# Altium integrated library Capacitor - Aluminium TH.IntLib: 4591 symbols (part 16 of 68)
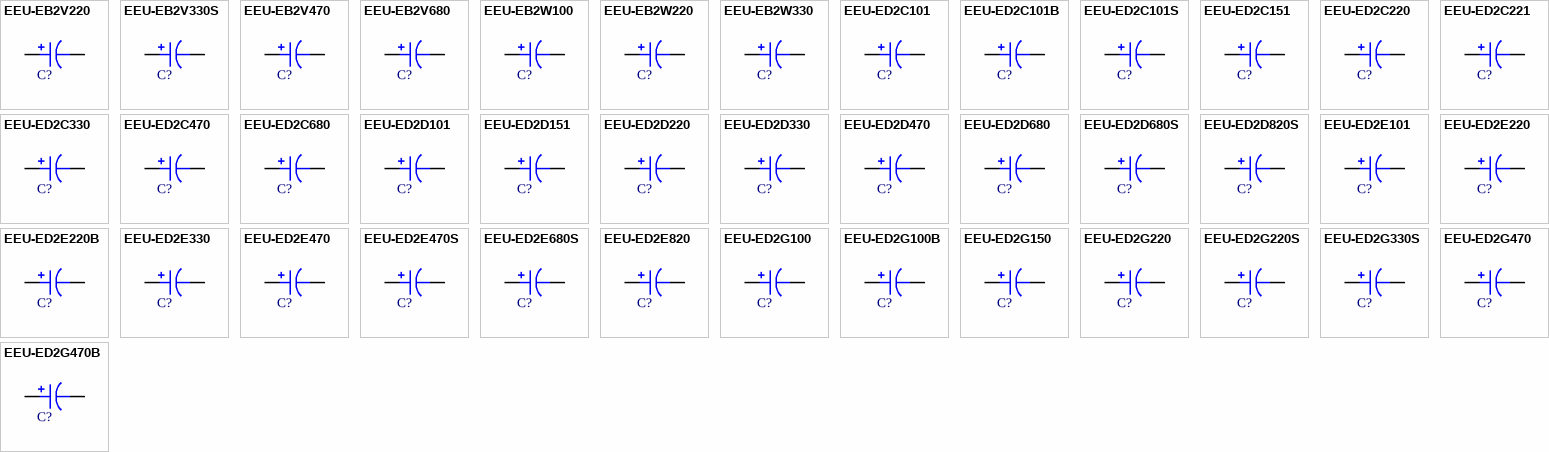
[diagram p129: symbols EEU-EB2V220 to EEU-ED2G470B]

## EEU-ED2C470
designator C?, comment 47uF  (value not drawn)
CAP ALUM 47UF 20% 160V RADIAL; Part Number: EEU-ED2C470; Manufacturer: Panasonic Electronic Components; TemperatureRange: -25C ~ 105C; Type: Polar; Ripple Current: 300mA @ 120Hz; Value: 47uF; PartId: 25561; Supplier 1: Digi-Key; Supplier Part Number 1: P13515-ND; ComponentLink1Description: Datasheet; ComponentLink1URL: http://industrial.panasonic.com/cdbs/www-data/pdf/RDF0000/ABA0000CE86.pdf; ComponentLink2Description: Digi-Key Listing; ComponentLink2URL: https://www.digikey.com/product-detail/en/panasonic-electronic-components/EEU-ED2C470/P13515-ND/1086740; Tolerance: 20%; Voltage: 160V; Price: 0.65; Device Package: Radial, Can, 10mm
footprint CAP AL TH D10 L5 H22
pins: 1, 2

## EEU-ED2C680
designator C?, comment 68uF  (value not drawn)
CAP ALUM 68UF 20% 160V RADIAL; Part Number: EEU-ED2C680; Manufacturer: Panasonic Electronic Components; TemperatureRange: -25C ~ 105C; Type: Polar; Ripple Current: 380mA @ 120Hz; Value: 68uF; PartId: 22917; Supplier 1: Digi-Key; Supplier Part Number 1: P13516-ND; ComponentLink1Description: Datasheet; ComponentLink1URL: http://industrial.panasonic.com/cdbs/www-data/pdf/RDF0000/ABA0000CE86.pdf; ComponentLink2Description: Digi-Key Listing; ComponentLink2URL: https://www.digikey.com/product-detail/en/panasonic-electronic-components/EEU-ED2C680/P13516-ND/1086741; Tolerance: 20%; Voltage: 160V; Price: 0; Device Package: Radial, Can, 12.5mm
footprint CAP AL TH D12.5 L5 H20
pins: 1, 2

## EEU-ED2D101
designator C?, comment 100uF  (value not drawn)
CAP ALUM 100UF 20% 200V RADIAL; Part Number: EEU-ED2D101; Manufacturer: Panasonic Electronic Components; TemperatureRange: -25C ~ 105C; Type: Polar; Ripple Current: 585mA @ 120Hz; Value: 100uF; PartId: 26624; Supplier 1: Digi-Key; Supplier Part Number 1: P13518-ND; ComponentLink1Description: Datasheet; ComponentLink1URL: http://industrial.panasonic.com/cdbs/www-data/pdf/RDF0000/ABA0000CE86.pdf; ComponentLink2Description: Digi-Key Listing; ComponentLink2URL: https://www.digikey.com/product-detail/en/panasonic-electronic-components/EEU-ED2D101/P13518-ND/1086743; Tolerance: 20%; Voltage: 200V; Price: 1.43; Device Package: Radial, Can, 16mm
footprint CAP AL TH D16 L7.5 H26.5
pins: 1, 2

## EEU-ED2D151
designator C?, comment 150uF  (value not drawn)
CAP ALUM 150UF 20% 200V RADIAL; Part Number: EEU-ED2D151; Manufacturer: Panasonic Electronic Components; TemperatureRange: -25C ~ 105C; Type: Polar; Ripple Current: 630mA @ 120Hz; Value: 150uF; PartId: 26623; Supplier 1: Digi-Key; Supplier Part Number 1: P13520-ND; ComponentLink1Description: Datasheet; ComponentLink1URL: http://industrial.panasonic.com/cdbs/www-data/pdf/RDF0000/ABA0000CE86.pdf; ComponentLink2Description: Digi-Key Listing; ComponentLink2URL: https://www.digikey.com/product-detail/en/panasonic-electronic-components/EEU-ED2D151/P13520-ND/1086745; Tolerance: 20%; Voltage: 200V; Price: 1.43; Device Package: Radial, Can, 16mm
footprint CAP AL TH D16 L7.5 H26.5
pins: 1, 2

## EEU-ED2D220
designator C?, comment 22uF  (value not drawn)
CAP ALUM 22UF 20% 200V RADIAL; Part Number: EEU-ED2D220; Manufacturer: Panasonic Electronic Components; TemperatureRange: -25C ~ 105C; Type: Polar; Ripple Current: 240mA @ 120Hz; Value: 22uF; PartId: 25565; Supplier 1: Digi-Key; Supplier Part Number 1: P13521-ND; ComponentLink1Description: Datasheet; ComponentLink1URL: http://industrial.panasonic.com/cdbs/www-data/pdf/RDF0000/ABA0000CE86.pdf; ComponentLink2Description: Digi-Key Listing; ComponentLink2URL: https://www.digikey.com/product-detail/en/panasonic-electronic-components/EEU-ED2D220/P13521-ND/1086746; Tolerance: 20%; Voltage: 200V; Price: 0.65; Device Package: Radial, Can, 10mm
footprint CAP AL TH D10 L5 H22
pins: 1, 2

## EEU-ED2D330
designator C?, comment 33uF  (value not drawn)
CAP ALUM 33UF 20% 200V RADIAL; Part Number: EEU-ED2D330; Manufacturer: Panasonic Electronic Components; TemperatureRange: -25C ~ 105C; Type: Polar; Ripple Current: 260mA @ 120Hz; Value: 33uF; PartId: 25562; Supplier 1: Digi-Key; Supplier Part Number 1: P13523-ND; ComponentLink1Description: Datasheet; ComponentLink1URL: http://industrial.panasonic.com/cdbs/www-data/pdf/RDF0000/ABA0000CE86.pdf; ComponentLink2Description: Digi-Key Listing; ComponentLink2URL: https://www.digikey.com/product-detail/en/panasonic-electronic-components/EEU-ED2D330/P13523-ND/1086748; Tolerance: 20%; Voltage: 200V; Price: 0.65; Device Package: Radial, Can, 10mm
footprint CAP AL TH D10 L5 H22
pins: 1, 2

## EEU-ED2D470
designator C?, comment 47uF  (value not drawn)
CAP ALUM 47UF 20% 200V RADIAL; Part Number: EEU-ED2D470; Manufacturer: Panasonic Electronic Components; TemperatureRange: -25C ~ 105C; Type: Polar; Ripple Current: 316mA @ 120Hz; Value: 47uF; PartId: 22916; Supplier 1: Digi-Key; Supplier Part Number 1: P13525-ND; ComponentLink1Description: Datasheet; ComponentLink1URL: http://industrial.panasonic.com/cdbs/www-data/pdf/RDF0000/ABA0000CE86.pdf; ComponentLink2Description: Digi-Key Listing; ComponentLink2URL: https://www.digikey.com/product-detail/en/panasonic-electronic-components/EEU-ED2D470/P13525-ND/1086750; Tolerance: 20%; Voltage: 200V; Price: 0; Device Package: Radial, Can, 12.5mm
footprint CAP AL TH D12.5 L5 H20
pins: 1, 2

## EEU-ED2D680
designator C?, comment 68uF  (value not drawn)
CAP ALUM 68UF 20% 200V RADIAL; Part Number: EEU-ED2D680; Manufacturer: Panasonic Electronic Components; TemperatureRange: -25C ~ 105C; Type: Polar; Ripple Current: 380mA @ 120Hz; Value: 68uF; PartId: 23603; Supplier 1: Digi-Key; Supplier Part Number 1: P13526-ND; ComponentLink1Description: Datasheet; ComponentLink1URL: http://industrial.panasonic.com/cdbs/www-data/pdf/RDF0000/ABA0000CE86.pdf; ComponentLink2Description: Digi-Key Listing; ComponentLink2URL: https://www.digikey.com/product-detail/en/panasonic-electronic-components/EEU-ED2D680/P13526-ND/1086751; Tolerance: 20%; Voltage: 200V; Price: 1.05; Device Package: Radial, Can, 12.5mm
footprint CAP AL TH D12.5 L5 H25
pins: 1, 2

## EEU-ED2D680S
designator C?, comment 68uF  (value not drawn)
CAP ALUM 68UF 20% 200V RADIAL; Part Number: EEU-ED2D680S; Manufacturer: Panasonic Electronic Components; TemperatureRange: -25C ~ 105C; Type: Polar; Ripple Current: 400mA @ 120Hz; Value: 68uF; PartId: 26324; Supplier 1: Digi-Key; Supplier Part Number 1: P13527-ND; ComponentLink1Description: Datasheet; ComponentLink1URL: http://industrial.panasonic.com/www-cgi/jvcr13pz.cgi?E+PZ+3+ABA0123+EEUED2D680S+7+WW; ComponentLink2Description: Digi-Key Listing; ComponentLink2URL: https://www.digikey.com/product-detail/en/panasonic-electronic-components/EEU-ED2D680S/P13527-ND/1086753; Tolerance: 20%; Voltage: 200V; Price: 1.32; Device Package: Radial, Can, 16mm
footprint CAP AL TH D16 L7.5 H20
pins: 1, 2

## EEU-ED2D820S
designator C?, comment 82uF  (value not drawn)
CAP ALUM 82UF 20% 200V RADIAL; Part Number: EEU-ED2D820S; Manufacturer: Panasonic Electronic Components; TemperatureRange: -25C ~ 105C; Type: Polar; Ripple Current: 440mA @ 120Hz; Value: 82uF; PartId: 26325; Supplier 1: Digi-Key; Supplier Part Number 1: P13528-ND; ComponentLink1Description: Datasheet; ComponentLink1URL: http://industrial.panasonic.com/www-cgi/jvcr13pz.cgi?E+PZ+3+ABA0123+EEUED2D820S+7+WW; ComponentLink2Description: Digi-Key Listing; ComponentLink2URL: https://www.digikey.com/product-detail/en/panasonic-electronic-components/EEU-ED2D820S/P13528-ND/1086754; Tolerance: 20%; Voltage: 200V; Price: 1.32; Device Package: Radial, Can, 16mm
footprint CAP AL TH D16 L7.5 H20
pins: 1, 2

## EEU-ED2E101
designator C?, comment 100uF  (value not drawn)
CAP ALUM 100UF 20% 250V RADIAL; Part Number: EEU-ED2E101; Manufacturer: Panasonic Electronic Components; TemperatureRange: -25C ~ 105C; Type: Polar; Ripple Current: 675mA @ 120Hz; Value: 100uF; PartId: 27161; Supplier 1: Digi-Key; Supplier Part Number 1: P13529-ND; ComponentLink1Description: Datasheet; ComponentLink1URL: http://industrial.panasonic.com/cdbs/www-data/pdf/RDF0000/ABA0000CE86.pdf; ComponentLink2Description: Digi-Key Listing; ComponentLink2URL: https://www.digikey.com/product-detail/en/panasonic-electronic-components/EEU-ED2E101/P13529-ND/1086755; Tolerance: 20%; Voltage: 250V; Price: 1.87; Device Package: Radial, Can, 16mm
footprint CAP AL TH D16 L7.5 H33.5
pins: 1, 2

## EEU-ED2E220
designator C?, comment 22uF  (value not drawn)
CAP ALUM 22UF 20% 250V RADIAL; Part Number: EEU-ED2E220; Manufacturer: Panasonic Electronic Components; TemperatureRange: -25C ~ 105C; Type: Polar; Ripple Current: 224mA @ 120Hz; Value: 22uF; PartId: 25564; Supplier 1: Digi-Key; Supplier Part Number 1: P13532-ND; ComponentLink1Description: Datasheet; ComponentLink1URL: http://industrial.panasonic.com/cdbs/www-data/pdf/RDF0000/ABA0000CE86.pdf; ComponentLink2Description: Digi-Key Listing; ComponentLink2URL: https://www.digikey.com/product-detail/en/panasonic-electronic-components/EEU-ED2E220/P13532-ND/1086758; Tolerance: 20%; Voltage: 250V; Price: 0.65; Device Package: Radial, Can, 10mm
footprint CAP AL TH D10 L5 H22
pins: 1, 2

## EEU-ED2E220B
designator C?, comment 22uF  (value not drawn)
CAP ALUM 22UF 20% 250V RADIAL; Part Number: EEU-ED2E220B; Manufacturer: Panasonic Electronic Components; TemperatureRange: -25C ~ 105C; Type: Polar; Ripple Current: 224mA @ 120Hz; Value: 22uF; PartId: 25788; Supplier 1: Digi-Key; Supplier Part Number 1: P19624TB-ND; ComponentLink1Description: Datasheet; ComponentLink1URL: http://industrial.panasonic.com/cdbs/www-data/pdf/RDF0000/ABA0000CE86.pdf; ComponentLink2Description: Digi-Key Listing; ComponentLink2URL: https://www.digikey.com/product-detail/en/panasonic-electronic-components/EEU-ED2E220B/P19624TB-ND/2689466; Tolerance: 20%; Voltage: 250V; Price: 0.2612; Device Package: Radial, Can, 10mm
footprint CAP AL TH D10 L5 H22
pins: 1, 2

## EEU-ED2E330
designator C?, comment 33uF  (value not drawn)
CAP ALUM 33UF 20% 250V RADIAL; Part Number: EEU-ED2E330; Manufacturer: Panasonic Electronic Components; TemperatureRange: -25C ~ 105C; Type: Polar; Ripple Current: 284mA @ 120Hz; Value: 33uF; PartId: 22918; Supplier 1: Digi-Key; Supplier Part Number 1: P13534-ND; ComponentLink1Description: Datasheet; ComponentLink1URL: http://industrial.panasonic.com/cdbs/www-data/pdf/RDF0000/ABA0000CE86.pdf; ComponentLink2Description: Digi-Key Listing; ComponentLink2URL: https://www.digikey.com/product-detail/en/panasonic-electronic-components/EEU-ED2E330/P13534-ND/1086760; Tolerance: 20%; Voltage: 250V; Price: 0; Device Package: Radial, Can, 12.5mm
footprint CAP AL TH D12.5 L5 H20
pins: 1, 2

## EEU-ED2E470
designator C?, comment 47uF  (value not drawn)
CAP ALUM 47UF 20% 250V RADIAL; Part Number: EEU-ED2E470; Manufacturer: Panasonic Electronic Components; TemperatureRange: -25C ~ 105C; Type: Polar; Ripple Current: 368mA @ 120Hz; Value: 47uF; PartId: 23601; Supplier 1: Digi-Key; Supplier Part Number 1: P13535-ND; ComponentLink1Description: Datasheet; ComponentLink1URL: http://industrial.panasonic.com/cdbs/www-data/pdf/RDF0000/ABA0000CE86.pdf; ComponentLink2Description: Digi-Key Listing; ComponentLink2URL: https://www.digikey.com/product-detail/en/panasonic-electronic-components/EEU-ED2E470/P13535-ND/1086761; Tolerance: 20%; Voltage: 250V; Price: 1.05; Device Package: Radial, Can, 12.5mm
footprint CAP AL TH D12.5 L5 H25
pins: 1, 2

## EEU-ED2E470S
designator C?, comment 47uF  (value not drawn)
CAP ALUM 47UF 20% 250V RADIAL; Part Number: EEU-ED2E470S; Manufacturer: Panasonic Electronic Components; TemperatureRange: -25C ~ 105C; Type: Polar; Ripple Current: 396mA @ 120Hz; Value: 47uF; PartId: 26323; Supplier 1: Digi-Key; Supplier Part Number 1: P13536-ND; ComponentLink1Description: Datasheet; ComponentLink1URL: http://industrial.panasonic.com/www-cgi/jvcr13pz.cgi?E+PZ+3+ABA0123+EEUED2E470S+7+WW; ComponentLink2Description: Digi-Key Listing; ComponentLink2URL: https://www.digikey.com/product-detail/en/panasonic-electronic-components/EEU-ED2E470S/P13536-ND/1086762; Tolerance: 20%; Voltage: 250V; Price: 1.32; Device Package: Radial, Can, 16mm
footprint CAP AL TH D16 L7.5 H20
pins: 1, 2

## EEU-ED2E680S
designator C?, comment 68uF  (value not drawn)
CAP ALUM 68UF 20% 250V RADIAL; Part Number: EEU-ED2E680S; Manufacturer: Panasonic Electronic Components; TemperatureRange: -25C ~ 105C; Type: Polar; Ripple Current: 400mA @ 120Hz; Value: 68uF; PartId: 26321; Supplier 1: Digi-Key; Supplier Part Number 1: P13537-ND; ComponentLink1Description: Datasheet; ComponentLink1URL: http://industrial.panasonic.com/www-cgi/jvcr13pz.cgi?E+PZ+3+ABA0123+EEUED2E680S+7+WW; ComponentLink2Description: Digi-Key Listing; ComponentLink2URL: https://www.digikey.com/product-detail/en/panasonic-electronic-components/EEU-ED2E680S/P13537-ND/1086763; Tolerance: 20%; Voltage: 250V; Price: 1.32; Device Package: Radial, Can, 16mm
footprint CAP AL TH D16 L7.5 H20
pins: 1, 2

## EEU-ED2E820
designator C?, comment 82uF  (value not drawn)
CAP ALUM 82UF 20% 250V RADIAL; Part Number: EEU-ED2E820; Manufacturer: Panasonic Electronic Components; TemperatureRange: -25C ~ 105C; Type: Polar; Ripple Current: 480mA @ 120Hz; Value: 82uF; PartId: 26627; Supplier 1: Digi-Key; Supplier Part Number 1: P13538-ND; ComponentLink1Description: Datasheet; ComponentLink1URL: http://industrial.panasonic.com/cdbs/www-data/pdf/RDF0000/ABA0000CE86.pdf; ComponentLink2Description: Digi-Key Listing; ComponentLink2URL: https://www.digikey.com/product-detail/en/panasonic-electronic-components/EEU-ED2E820/P13538-ND/1086764; Tolerance: 20%; Voltage: 250V; Price: 1.43; Device Package: Radial, Can, 16mm
footprint CAP AL TH D16 L7.5 H26.5
pins: 1, 2

## EEU-ED2G100
designator C?, comment 10uF  (value not drawn)
CAP ALUM 10UF 20% 400V RADIAL; Part Number: EEU-ED2G100; Manufacturer: Panasonic Electronic Components; TemperatureRange: -25C ~ 105C; Type: Polar; Ripple Current: 120mA @ 120Hz; Value: 10uF; PartId: 25622; Supplier 1: Digi-Key; Supplier Part Number 1: P13540-ND; ComponentLink1Description: Datasheet; ComponentLink1URL: http://industrial.panasonic.com/cdbs/www-data/pdf/RDF0000/ABA0000CE86.pdf; ComponentLink2Description: Digi-Key Listing; ComponentLink2URL: https://www.digikey.com/product-detail/en/panasonic-electronic-components/EEU-ED2G100/P13540-ND/1086766; Tolerance: 20%; Voltage: 400V; Price: 0.71; Device Package: Radial, Can, 10mm
footprint CAP AL TH D10 L5 H22
pins: 1, 2

## EEU-ED2G100B
designator C?, comment 10uF  (value not drawn)
CAP ALUM 10UF 20% 400V RADIAL; Part Number: EEU-ED2G100B; Manufacturer: Panasonic Electronic Components; TemperatureRange: -25C ~ 105C; Type: Polar; Ripple Current: 120mA @ 120Hz; Value: 10uF; PartId: 25805; Supplier 1: Digi-Key; Supplier Part Number 1: P19625TB-ND; ComponentLink1Description: Datasheet; ComponentLink1URL: http://industrial.panasonic.com/cdbs/www-data/pdf/RDF0000/ABA0000CE86.pdf; ComponentLink2Description: Digi-Key Listing; ComponentLink2URL: https://www.digikey.com/product-detail/en/panasonic-electronic-components/EEU-ED2G100B/P19625TB-ND/2689474; Tolerance: 20%; Voltage: 400V; Price: 0.3009; Device Package: Radial, Can, 10mm
footprint CAP AL TH D10 L5 H22
pins: 1, 2

## EEU-ED2G150
designator C?, comment 15uF  (value not drawn)
CAP ALUM 15UF 20% 400V RADIAL; Part Number: EEU-ED2G150; Manufacturer: Panasonic Electronic Components; TemperatureRange: -25C ~ 105C; Type: Polar; Ripple Current: 164mA @ 120Hz; Value: 15uF; PartId: 22932; Supplier 1: Digi-Key; Supplier Part Number 1: P13541-ND; ComponentLink1Description: Datasheet; ComponentLink1URL: http://industrial.panasonic.com/cdbs/www-data/pdf/RDF0000/ABA0000CE86.pdf; ComponentLink2Description: Digi-Key Listing; ComponentLink2URL: https://www.digikey.com/product-detail/en/panasonic-electronic-components/EEU-ED2G150/P13541-ND/1086767; Tolerance: 20%; Voltage: 400V; Price: 0; Device Package: Radial, Can, 12.5mm
footprint CAP AL TH D12.5 L5 H20
pins: 1, 2

## EEU-ED2G220
designator C?, comment 22uF  (value not drawn)
CAP ALUM 22UF 20% 400V RADIAL; Part Number: EEU-ED2G220; Manufacturer: Panasonic Electronic Components; TemperatureRange: -25C ~ 105C; Type: Polar; Ripple Current: 200mA @ 120Hz; Value: 22uF; PartId: 23613; Supplier 1: Digi-Key; Supplier Part Number 1: P13542-ND; ComponentLink1Description: Datasheet; ComponentLink1URL: http://industrial.panasonic.com/cdbs/www-data/pdf/RDF0000/ABA0000CE86.pdf; ComponentLink2Description: Digi-Key Listing; ComponentLink2URL: https://www.digikey.com/product-detail/en/panasonic-electronic-components/EEU-ED2G220/P13542-ND/1086768; Tolerance: 20%; Voltage: 400V; Price: 1.15; Device Package: Radial, Can, 12.5mm
footprint CAP AL TH D12.5 L5 H25
pins: 1, 2

## EEU-ED2G220S
designator C?, comment 22uF  (value not drawn)
CAP ALUM 22UF 20% 400V RADIAL; Part Number: EEU-ED2G220S; Manufacturer: Panasonic Electronic Components; TemperatureRange: -25C ~ 105C; Type: Polar; Ripple Current: 240mA @ 120Hz; Value: 22uF; PartId: 26337; Supplier 1: Digi-Key; Supplier Part Number 1: P13543-ND; ComponentLink1Description: Datasheet; ComponentLink1URL: http://industrial.panasonic.com/www-cgi/jvcr13pz.cgi?E+PZ+3+ABA0123+EEUED2G220S+7+WW; ComponentLink2Description: Digi-Key Listing; ComponentLink2URL: https://www.digikey.com/product-detail/en/panasonic-electronic-components/EEU-ED2G220S/P13543-ND/1086769; Tolerance: 20%; Voltage: 400V; Price: 1.48; Device Package: Radial, Can, 16mm
footprint CAP AL TH D16 L7.5 H20
pins: 1, 2

## EEU-ED2G330S
designator C?, comment 33uF  (value not drawn)
CAP ALUM 33UF 20% 400V RADIAL; Part Number: EEU-ED2G330S; Manufacturer: Panasonic Electronic Components; TemperatureRange: -25C ~ 105C; Type: Polar; Ripple Current: 292mA @ 120Hz; Value: 33uF; PartId: 26338; Supplier 1: Digi-Key; Supplier Part Number 1: P13544-ND; ComponentLink1Description: Datasheet; ComponentLink1URL: http://industrial.panasonic.com/www-cgi/jvcr13pz.cgi?E+PZ+3+ABA0123+EEUED2G330S+7+WW; ComponentLink2Description: Digi-Key Listing; ComponentLink2URL: https://www.digikey.com/product-detail/en/panasonic-electronic-components/EEU-ED2G330S/P13544-ND/1086770; Tolerance: 20%; Voltage: 400V; Price: 1.48; Device Package: Radial, Can, 16mm
footprint CAP AL TH D16 L7.5 H20
pins: 1, 2

## EEU-ED2G470
designator C?, comment 47uF  (value not drawn)
CAP ALUM 47UF 20% 400V RADIAL; Part Number: EEU-ED2G470; Manufacturer: Panasonic Electronic Components; TemperatureRange: -25C ~ 105C; Type: Polar; Ripple Current: 336mA @ 120Hz; Value: 47uF; PartId: 26666; Supplier 1: Digi-Key; Supplier Part Number 1: P13545-ND; ComponentLink1Description: Datasheet; ComponentLink1URL: http://industrial.panasonic.com/cdbs/www-data/pdf/RDF0000/ABA0000CE86.pdf; ComponentLink2Description: Digi-Key Listing; ComponentLink2URL: https://www.digikey.com/product-detail/en/panasonic-electronic-components/EEU-ED2G470/P13545-ND/816462; Tolerance: 20%; Voltage: 400V; Price: 1.65; Device Package: Radial, Can, 16mm
footprint CAP AL TH D16 L7.5 H26.5
pins: 1, 2

## EEU-ED2G470B
designator C?, comment 47uF  (value not drawn)
CAP ALUM 47UF 20% 400V RADIAL; Part Number: EEU-ED2G470B; Manufacturer: Panasonic Electronic Components; TemperatureRange: -25C ~ 105C; Type: Polar; Ripple Current: 336mA @ 120Hz; Value: 47uF; PartId: 26809; Supplier 1: Digi-Key; Supplier Part Number 1: P19626TB-ND; ComponentLink1Description: Datasheet; ComponentLink1URL: http://industrial.panasonic.com/cdbs/www-data/pdf/RDF0000/ABA0000CE86.pdf; ComponentLink2Description: Digi-Key Listing; ComponentLink2URL: https://www.digikey.com/product-detail/en/panasonic-electronic-components/EEU-ED2G470B/P19626TB-ND/2689479; Tolerance: 20%; Voltage: 400V; Price: 0.8668; Device Package: Radial, Can, 16mm
footprint CAP AL TH D16 L7.5 H27
pins: 1, 2

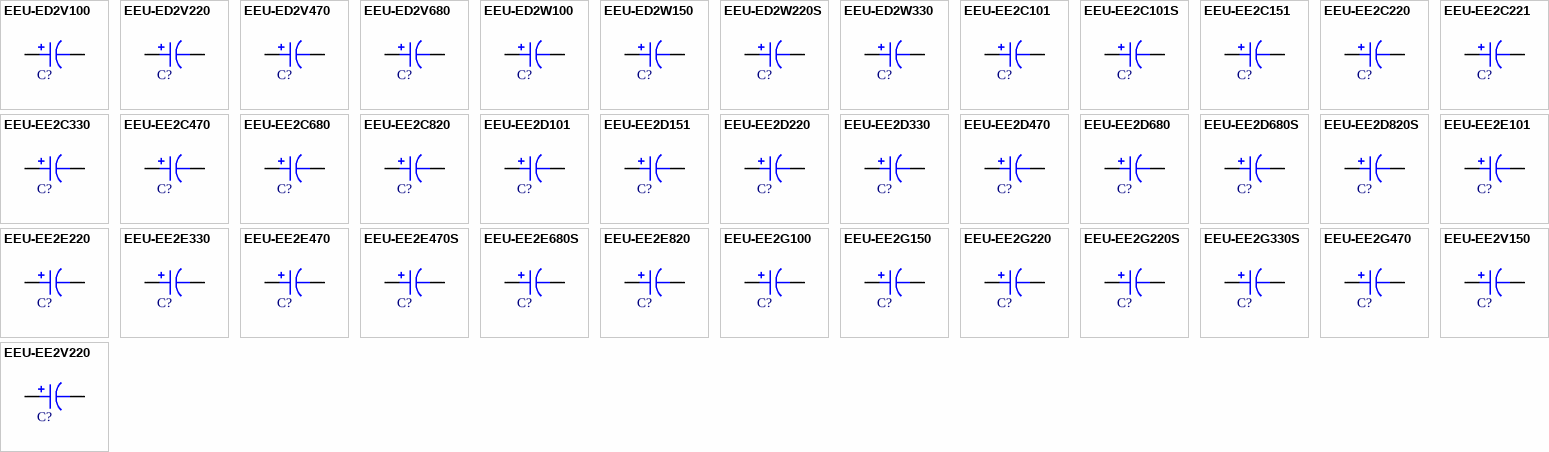
[diagram p26: symbols EEU-ED2V100 to EEU-EE2V220]

## EEU-ED2V100
designator C?, comment 10uF  (value not drawn)
CAP ALUM 10UF 20% 350V RADIAL; Part Number: EEU-ED2V100; Manufacturer: Panasonic Electronic Components; TemperatureRange: -25C ~ 105C; Type: Polar; Ripple Current: 140mA @ 120Hz; Value: 10uF; PartId: 25661; Supplier 1: Digi-Key; Supplier Part Number 1: P13549-ND; ComponentLink1Description: Datasheet; ComponentLink1URL: http://industrial.panasonic.com/cdbs/www-data/pdf/RDF0000/ABA0000CE86.pdf; ComponentLink2Description: Digi-Key Listing; ComponentLink2URL: https://www.digikey.com/product-detail/en/panasonic-electronic-components/EEU-ED2V100/P13549-ND/1086774; Tolerance: 20%; Voltage: 350V; Price: 0.75; Device Package: Radial, Can, 10mm
footprint CAP AL TH D10 L5 H22
pins: 1, 2

## EEU-ED2V220
designator C?, comment 22uF  (value not drawn)
CAP ALUM 22UF 20% 350V RADIAL; Part Number: EEU-ED2V220; Manufacturer: Panasonic Electronic Components; TemperatureRange: -25C ~ 105C; Type: Polar; Ripple Current: 192mA @ 120Hz; Value: 22uF; PartId: 22933; Supplier 1: Digi-Key; Supplier Part Number 1: P13551-ND; ComponentLink1Description: Datasheet; ComponentLink1URL: http://industrial.panasonic.com/cdbs/www-data/pdf/RDF0000/ABA0000CE86.pdf; ComponentLink2Description: Digi-Key Listing; ComponentLink2URL: https://www.digikey.com/product-detail/en/panasonic-electronic-components/EEU-ED2V220/P13551-ND/1086776; Tolerance: 20%; Voltage: 350V; Price: 0; Device Package: Radial, Can, 12.5mm
footprint CAP AL TH D12.5 L5 H20
pins: 1, 2

## EEU-ED2V470
designator C?, comment 47uF  (value not drawn)
CAP ALUM 47UF 20% 350V RADIAL; Part Number: EEU-ED2V470; Manufacturer: Panasonic Electronic Components; TemperatureRange: -25C ~ 105C; Type: Polar; Ripple Current: 320mA @ 120Hz; Value: 47uF; PartId: 26668; Supplier 1: Digi-Key; Supplier Part Number 1: P13553-ND; ComponentLink1Description: Datasheet; ComponentLink1URL: http://industrial.panasonic.com/cdbs/www-data/pdf/RDF0000/ABA0000CE86.pdf; ComponentLink2Description: Digi-Key Listing; ComponentLink2URL: https://www.digikey.com/product-detail/en/panasonic-electronic-components/EEU-ED2V470/P13553-ND/1086778; Tolerance: 20%; Voltage: 350V; Price: 1.65; Device Package: Radial, Can, 16mm
footprint CAP AL TH D16 L7.5 H26.5
pins: 1, 2

## EEU-ED2V680
designator C?, comment 68uF  (value not drawn)
CAP ALUM 68UF 20% 350V RADIAL; Part Number: EEU-ED2V680; Manufacturer: Panasonic Electronic Components; TemperatureRange: -25C ~ 105C; Type: Polar; Ripple Current: 440mA @ 120Hz; Value: 68uF; PartId: 27182; Supplier 1: Digi-Key; Supplier Part Number 1: P13555-ND; ComponentLink1Description: Datasheet; ComponentLink1URL: http://industrial.panasonic.com/cdbs/www-data/pdf/RDF0000/ABA0000CE86.pdf; ComponentLink2Description: Digi-Key Listing; ComponentLink2URL: https://www.digikey.com/product-detail/en/panasonic-electronic-components/EEU-ED2V680/P13555-ND/1086780; Tolerance: 20%; Voltage: 350V; Price: 1.96; Device Package: Radial, Can, 16mm
footprint CAP AL TH D16 L7.5 H33.5
pins: 1, 2

## EEU-ED2W100
designator C?, comment 10uF  (value not drawn)
CAP ALUM 10UF 20% 450V RADIAL; Part Number: EEU-ED2W100; Manufacturer: Panasonic Electronic Components; TemperatureRange: -25C ~ 105C; Type: Polar; Ripple Current: 140mA @ 120Hz; Value: 10uF; PartId: 22925; Supplier 1: Digi-Key; Supplier Part Number 1: P13558-ND; ComponentLink1Description: Datasheet; ComponentLink1URL: http://industrial.panasonic.com/cdbs/www-data/pdf/RDF0000/ABA0000CE86.pdf; ComponentLink2Description: Digi-Key Listing; ComponentLink2URL: https://www.digikey.com/product-detail/en/panasonic-electronic-components/EEU-ED2W100/P13558-ND/1086783; Tolerance: 20%; Voltage: 450V; Price: 0; Device Package: Radial, Can, 12.5mm
footprint CAP AL TH D12.5 L5 H20
pins: 1, 2

## EEU-ED2W150
designator C?, comment 15uF  (value not drawn)
CAP ALUM 15UF 20% 450V RADIAL; Part Number: EEU-ED2W150; Manufacturer: Panasonic Electronic Components; TemperatureRange: -25C ~ 105C; Type: Polar; Ripple Current: 224mA @ 120Hz; Value: 15uF; PartId: 23599; Supplier 1: Digi-Key; Supplier Part Number 1: P13559-ND; ComponentLink1Description: Datasheet; ComponentLink1URL: http://industrial.panasonic.com/cdbs/www-data/pdf/RDF0000/ABA0000CE86.pdf; ComponentLink2Description: Digi-Key Listing; ComponentLink2URL: https://www.digikey.com/product-detail/en/panasonic-electronic-components/EEU-ED2W150/P13559-ND/1086784; Tolerance: 20%; Voltage: 450V; Price: 1.05; Device Package: Radial, Can, 12.5mm
footprint CAP AL TH D12.5 L5 H25
pins: 1, 2

## EEU-ED2W220S
designator C?, comment 22uF  (value not drawn)
CAP ALUM 22UF 20% 450V RADIAL; Part Number: EEU-ED2W220S; Manufacturer: Panasonic Electronic Components; TemperatureRange: -25C ~ 105C; Type: Polar; Ripple Current: 272mA @ 120Hz; Value: 22uF; PartId: 26336; Supplier 1: Digi-Key; Supplier Part Number 1: P13560-ND; ComponentLink1Description: Datasheet; ComponentLink1URL: http://industrial.panasonic.com/www-cgi/jvcr13pz.cgi?E+PZ+3+ABA0123+EEUED2W220S+7+WW; ComponentLink2Description: Digi-Key Listing; ComponentLink2URL: https://www.digikey.com/product-detail/en/panasonic-electronic-components/EEU-ED2W220S/P13560-ND/1086785; Tolerance: 20%; Voltage: 450V; Price: 1.48; Device Package: Radial, Can, 16mm
footprint CAP AL TH D16 L7.5 H20
pins: 1, 2

## EEU-ED2W330
designator C?, comment 33uF  (value not drawn)
CAP ALUM 33UF 20% 450V RADIAL; Part Number: EEU-ED2W330; Manufacturer: Panasonic Electronic Components; TemperatureRange: -25C ~ 105C; Type: Polar; Ripple Current: 340mA @ 120Hz; Value: 33uF; PartId: 27181; Supplier 1: Digi-Key; Supplier Part Number 1: P13561-ND; ComponentLink1Description: Datasheet; ComponentLink1URL: http://industrial.panasonic.com/cdbs/www-data/pdf/RDF0000/ABA0000CE86.pdf; ComponentLink2Description: Digi-Key Listing; ComponentLink2URL: https://www.digikey.com/product-detail/en/panasonic-electronic-components/EEU-ED2W330/P13561-ND/1086786; Tolerance: 20%; Voltage: 450V; Price: 1.96; Device Package: Radial, Can, 16mm
footprint CAP AL TH D16 L7.5 H33.5
pins: 1, 2

## EEU-EE2C101
designator C?, comment 100uF  (value not drawn)
CAP ALUM 100UF 20% 160V RADIAL; Part Number: EEU-EE2C101; Manufacturer: Panasonic Electronic Components; TemperatureRange: -25C ~ 105C; Type: Polar; Ripple Current: 664mA @ 120Hz; Value: 100uF; PartId: 24010; Supplier 1: Digi-Key; Supplier Part Number 1: P13622-ND; ComponentLink1Description: Datasheet; ComponentLink1URL: http://industrial.panasonic.com/www-cgi/jvcr13pz.cgi?E+PZ+3+ABA0113+EEUEE2C101+7+WW; ComponentLink2Description: Digi-Key Listing; ComponentLink2URL: https://www.digikey.com/product-detail/en/panasonic-electronic-components/EEU-EE2C101/P13622-ND/1245951; Tolerance: 20%; Voltage: 160V; Price: 1.07; Device Package: Radial, Can, 12.5mm
footprint CAP AL TH D12.5 L5 H27
pins: 1, 2

## EEU-EE2C101S
designator C?, comment 100uF  (value not drawn)
CAP ALUM 100UF 20% 160V RADIAL; Part Number: EEU-EE2C101S; Manufacturer: Panasonic Electronic Components; TemperatureRange: -25C ~ 105C; Type: Polar; Ripple Current: 680mA @ 120Hz; Value: 100uF; PartId: 26436; Supplier 1: Digi-Key; Supplier Part Number 1: P13623-ND; ComponentLink1Description: Datasheet; ComponentLink1URL: http://industrial.panasonic.com/www-cgi/jvcr13pz.cgi?E+PZ+3+ABA0113+EEUEE2C101S+7+WW; ComponentLink2Description: Digi-Key Listing; ComponentLink2URL: https://www.digikey.com/product-detail/en/panasonic-electronic-components/EEU-EE2C101S/P13623-ND/1245952; Tolerance: 20%; Voltage: 160V; Price: 1.37; Device Package: Radial, Can, 16mm
footprint CAP AL TH D16 L7.5 H22
pins: 1, 2

## EEU-EE2C151
designator C?, comment 150uF  (value not drawn)
CAP ALUM 150UF 20% 160V RADIAL; Part Number: EEU-EE2C151; Manufacturer: Panasonic Electronic Components; TemperatureRange: -25C ~ 105C; Type: Polar; Ripple Current: 756mA @ 120Hz; Value: 150uF; PartId: 26905; Supplier 1: Digi-Key; Supplier Part Number 1: P13624-ND; ComponentLink1Description: Datasheet; ComponentLink1URL: http://industrial.panasonic.com/www-cgi/jvcr13pz.cgi?E+PZ+3+ABA0113+EEUEE2C151+7+WW; ComponentLink2Description: Digi-Key Listing; ComponentLink2URL: https://www.digikey.com/product-detail/en/panasonic-electronic-components/EEU-EE2C151/P13624-ND/1245953; Tolerance: 20%; Voltage: 160V; Price: 1.59; Device Package: Radial, Can, 16mm
footprint CAP AL TH D16 L7.5 H27
pins: 1, 2

## EEU-EE2C220
designator C?, comment 22uF  (value not drawn)
CAP ALUM 22UF 20% 160V RADIAL; Part Number: EEU-EE2C220; Manufacturer: Panasonic Electronic Components; TemperatureRange: -25C ~ 105C; Type: Polar; Ripple Current: 245mA @ 120Hz; Value: 22uF; PartId: 25907; Supplier 1: Digi-Key; Supplier Part Number 1: P13617-ND; ComponentLink1Description: Datasheet; ComponentLink1URL: http://industrial.panasonic.com/www-cgi/jvcr13pz.cgi?E+PZ+3+ABA0113+EEUEE2C220+7+WW; ComponentLink2Description: Digi-Key Listing; ComponentLink2URL: https://www.digikey.com/product-detail/en/panasonic-electronic-components/EEU-EE2C220/P13617-ND/1245946; Tolerance: 20%; Voltage: 160V; Price: 0.69; Device Package: Radial, Can, 10mm
footprint CAP AL TH D10 L5 H22
pins: 1, 2

## EEU-EE2C221
designator C?, comment 220uF  (value not drawn)
CAP ALUM 220UF 20% 160V RADIAL; Part Number: EEU-EE2C221; Manufacturer: Panasonic Electronic Components; TemperatureRange: -25C ~ 105C; Type: Polar; Ripple Current: 912mA @ 120Hz; Value: 220uF; PartId: 27092; Supplier 1: Digi-Key; Supplier Part Number 1: P13626-ND; ComponentLink1Description: Datasheet; ComponentLink1URL: http://industrial.panasonic.com/www-cgi/jvcr13pz.cgi?E+PZ+3+ABA0113+EEUEE2C221+7+WW; ComponentLink2Description: Digi-Key Listing; ComponentLink2URL: https://www.digikey.com/product-detail/en/panasonic-electronic-components/EEU-EE2C221/P13626-ND/1245955; Tolerance: 20%; Voltage: 160V; Price: 1.72; Device Package: Radial, Can, 16mm
footprint CAP AL TH D16 L7.5 H33.5
pins: 1, 2

## EEU-EE2C330
designator C?, comment 33uF  (value not drawn)
CAP ALUM 33UF 20% 160V RADIAL; Part Number: EEU-EE2C330; Manufacturer: Panasonic Electronic Components; TemperatureRange: -25C ~ 105C; Type: Polar; Ripple Current: 283.5mA @ 120Hz; Value: 33uF; PartId: 25908; Supplier 1: Digi-Key; Supplier Part Number 1: P13618-ND; ComponentLink1Description: Datasheet; ComponentLink1URL: http://industrial.panasonic.com/www-cgi/jvcr13pz.cgi?E+PZ+3+ABA0113+EEUEE2C330+7+WW; ComponentLink2Description: Digi-Key Listing; ComponentLink2URL: https://www.digikey.com/product-detail/en/panasonic-electronic-components/EEU-EE2C330/P13618-ND/1245947; Tolerance: 20%; Voltage: 160V; Price: 0.69; Device Package: Radial, Can, 10mm
footprint CAP AL TH D10 L5 H22
pins: 1, 2

## EEU-EE2C470
designator C?, comment 47uF  (value not drawn)
CAP ALUM 47UF 20% 160V RADIAL; Part Number: EEU-EE2C470; Manufacturer: Panasonic Electronic Components; TemperatureRange: -25C ~ 105C; Type: Polar; Ripple Current: 372.7mA @ 120Hz; Value: 47uF; PartId: 25904; Supplier 1: Digi-Key; Supplier Part Number 1: P13619-ND; ComponentLink1Description: Datasheet; ComponentLink1URL: http://industrial.panasonic.com/www-cgi/jvcr13pz.cgi?E+PZ+3+ABA0113+EEUEE2C470+7+WW; ComponentLink2Description: Digi-Key Listing; ComponentLink2URL: https://www.digikey.com/product-detail/en/panasonic-electronic-components/EEU-EE2C470/P13619-ND/1245948; Tolerance: 20%; Voltage: 160V; Price: 0.69; Device Package: Radial, Can, 10mm
footprint CAP AL TH D10 L5 H22
pins: 1, 2

## EEU-EE2C680
designator C?, comment 68uF  (value not drawn)
CAP ALUM 68UF 20% 160V RADIAL; Part Number: EEU-EE2C680; Manufacturer: Panasonic Electronic Components; TemperatureRange: -25C ~ 105C; Type: Polar; Ripple Current: 472.5mA @ 120Hz; Value: 68uF; PartId: 23391; Supplier 1: Digi-Key; Supplier Part Number 1: P13620-ND; ComponentLink1Description: Datasheet; ComponentLink1URL: http://industrial.panasonic.com/www-cgi/jvcr13pz.cgi?E+PZ+3+ABA0113+EEUEE2C680+7+WW; ComponentLink2Description: Digi-Key Listing; ComponentLink2URL: https://www.digikey.com/product-detail/en/panasonic-electronic-components/EEU-EE2C680/P13620-ND/1245949; Tolerance: 20%; Voltage: 160V; Price: 0.95; Device Package: Radial, Can, 12.5mm
footprint CAP AL TH D12.5 L5 H22
pins: 1, 2

## EEU-EE2C820
designator C?, comment 82uF  (value not drawn)
CAP ALUM 82UF 20% 160V RADIAL; Part Number: EEU-EE2C820; Manufacturer: Panasonic Electronic Components; TemperatureRange: -25C ~ 105C; Type: Polar; Ripple Current: 518mA @ 120Hz; Value: 82uF; PartId: 24015; Supplier 1: Digi-Key; Supplier Part Number 1: P13621-ND; ComponentLink1Description: Datasheet; ComponentLink1URL: http://industrial.panasonic.com/www-cgi/jvcr13pz.cgi?E+PZ+3+ABA0113+EEUEE2C820+7+WW; ComponentLink2Description: Digi-Key Listing; ComponentLink2URL: https://www.digikey.com/product-detail/en/panasonic-electronic-components/EEU-EE2C820/P13621-ND/1245950; Tolerance: 20%; Voltage: 160V; Price: 1.07; Device Package: Radial, Can, 12.5mm
footprint CAP AL TH D12.5 L5 H27
pins: 1, 2

## EEU-EE2D101
designator C?, comment 100uF  (value not drawn)
CAP ALUM 100UF 20% 200V RADIAL; Part Number: EEU-EE2D101; Manufacturer: Panasonic Electronic Components; TemperatureRange: -25C ~ 105C; Type: Polar; Ripple Current: 692mA @ 120Hz; Value: 100uF; PartId: 26906; Supplier 1: Digi-Key; Supplier Part Number 1: P13635-ND; ComponentLink1Description: Datasheet; ComponentLink1URL: http://industrial.panasonic.com/www-cgi/jvcr13pz.cgi?E+PZ+3+ABA0113+EEUEE2D101+7+WW; ComponentLink2Description: Digi-Key Listing; ComponentLink2URL: https://www.digikey.com/product-detail/en/panasonic-electronic-components/EEU-EE2D101/P13635-ND/1245964; Tolerance: 20%; Voltage: 200V; Price: 1.59; Device Package: Radial, Can, 16mm
footprint CAP AL TH D16 L7.5 H27
pins: 1, 2

## EEU-EE2D151
designator C?, comment 150uF  (value not drawn)
CAP ALUM 150UF 20% 200V RADIAL; Part Number: EEU-EE2D151; Manufacturer: Panasonic Electronic Components; TemperatureRange: -25C ~ 105C; Type: Polar; Ripple Current: 744mA @ 120Hz; Value: 150uF; PartId: 26904; Supplier 1: Digi-Key; Supplier Part Number 1: P13637-ND; ComponentLink1Description: Datasheet; ComponentLink1URL: http://industrial.panasonic.com/www-cgi/jvcr13pz.cgi?E+PZ+3+ABA0113+EEUEE2D151+7+WW; ComponentLink2Description: Digi-Key Listing; ComponentLink2URL: https://www.digikey.com/product-detail/en/panasonic-electronic-components/EEU-EE2D151/P13637-ND/1245966; Tolerance: 20%; Voltage: 200V; Price: 1.59; Device Package: Radial, Can, 16mm
footprint CAP AL TH D16 L7.5 H27
pins: 1, 2

## EEU-EE2D220
designator C?, comment 22uF  (value not drawn)
CAP ALUM 22UF 20% 200V RADIAL; Part Number: EEU-EE2D220; Manufacturer: Panasonic Electronic Components; TemperatureRange: -25C ~ 105C; Type: Polar; Ripple Current: 297.5mA @ 120Hz; Value: 22uF; PartId: 25909; Supplier 1: Digi-Key; Supplier Part Number 1: P13629-ND; ComponentLink1Description: Datasheet; ComponentLink1URL: http://industrial.panasonic.com/www-cgi/jvcr13pz.cgi?E+PZ+3+ABA0113+EEUEE2D220+7+WW; ComponentLink2Description: Digi-Key Listing; ComponentLink2URL: https://www.digikey.com/product-detail/en/panasonic-electronic-components/EEU-EE2D220/P13629-ND/1245958; Tolerance: 20%; Voltage: 200V; Price: 0.69; Device Package: Radial, Can, 10mm
footprint CAP AL TH D10 L5 H22
pins: 1, 2

## EEU-EE2D330
designator C?, comment 33uF  (value not drawn)
CAP ALUM 33UF 20% 200V RADIAL; Part Number: EEU-EE2D330; Manufacturer: Panasonic Electronic Components; TemperatureRange: -25C ~ 105C; Type: Polar; Ripple Current: 322mA @ 120Hz; Value: 33uF; PartId: 25905; Supplier 1: Digi-Key; Supplier Part Number 1: P13630-ND; ComponentLink1Description: Datasheet; ComponentLink1URL: http://industrial.panasonic.com/www-cgi/jvcr13pz.cgi?E+PZ+3+ABA0113+EEUEE2D330+7+WW; ComponentLink2Description: Digi-Key Listing; ComponentLink2URL: https://www.digikey.com/product-detail/en/panasonic-electronic-components/EEU-EE2D330/P13630-ND/1245959; Tolerance: 20%; Voltage: 200V; Price: 0.69; Device Package: Radial, Can, 10mm
footprint CAP AL TH D10 L5 H22
pins: 1, 2

## EEU-EE2D470
designator C?, comment 47uF  (value not drawn)
CAP ALUM 47UF 20% 200V RADIAL; Part Number: EEU-EE2D470; Manufacturer: Panasonic Electronic Components; TemperatureRange: -25C ~ 105C; Type: Polar; Ripple Current: 385mA @ 120Hz; Value: 47uF; PartId: 23389; Supplier 1: Digi-Key; Supplier Part Number 1: P13631-ND; ComponentLink1Description: Datasheet; ComponentLink1URL: http://industrial.panasonic.com/www-cgi/jvcr13pz.cgi?E+PZ+3+ABA0113+EEUEE2D470+7+WW; ComponentLink2Description: Digi-Key Listing; ComponentLink2URL: https://www.digikey.com/product-detail/en/panasonic-electronic-components/EEU-EE2D470/P13631-ND/1245960; Tolerance: 20%; Voltage: 200V; Price: 0.95; Device Package: Radial, Can, 12.5mm
footprint CAP AL TH D12.5 L5 H22
pins: 1, 2

## EEU-EE2D680
designator C?, comment 68uF  (value not drawn)
CAP ALUM 68UF 20% 200V RADIAL; Part Number: EEU-EE2D680; Manufacturer: Panasonic Electronic Components; TemperatureRange: -25C ~ 105C; Type: Polar; Ripple Current: 465.5mA @ 120Hz; Value: 68uF; PartId: 24014; Supplier 1: Digi-Key; Supplier Part Number 1: P13632-ND; ComponentLink1Description: Datasheet; ComponentLink1URL: http://industrial.panasonic.com/www-cgi/jvcr13pz.cgi?E+PZ+3+ABA0113+EEUEE2D680+7+WW; ComponentLink2Description: Digi-Key Listing; ComponentLink2URL: https://www.digikey.com/product-detail/en/panasonic-electronic-components/EEU-EE2D680/P13632-ND/1245961; Tolerance: 20%; Voltage: 200V; Price: 1.07; Device Package: Radial, Can, 12.5mm
footprint CAP AL TH D12.5 L5 H27
pins: 1, 2

## EEU-EE2D680S
designator C?, comment 68uF  (value not drawn)
CAP ALUM 68UF 20% 200V RADIAL; Part Number: EEU-EE2D680S; Manufacturer: Panasonic Electronic Components; TemperatureRange: -25C ~ 105C; Type: Polar; Ripple Current: 465.5mA @ 120Hz; Value: 68uF; PartId: 26438; Supplier 1: Digi-Key; Supplier Part Number 1: P13633-ND; ComponentLink1Description: Datasheet; ComponentLink1URL: http://industrial.panasonic.com/www-cgi/jvcr13pz.cgi?E+PZ+3+ABA0113+EEUEE2D680S+7+WW; ComponentLink2Description: Digi-Key Listing; ComponentLink2URL: https://www.digikey.com/product-detail/en/panasonic-electronic-components/EEU-EE2D680S/P13633-ND/1245962; Tolerance: 20%; Voltage: 200V; Price: 1.37; Device Package: Radial, Can, 16mm
footprint CAP AL TH D16 L7.5 H22
pins: 1, 2

## EEU-EE2D820S
designator C?, comment 82uF  (value not drawn)
CAP ALUM 82UF 20% 200V RADIAL; Part Number: EEU-EE2D820S; Manufacturer: Panasonic Electronic Components; TemperatureRange: -25C ~ 105C; Type: Polar; Ripple Current: 511mA @ 120Hz; Value: 82uF; PartId: 26440; Supplier 1: Digi-Key; Supplier Part Number 1: P13634-ND; ComponentLink1Description: Datasheet; ComponentLink1URL: http://industrial.panasonic.com/www-cgi/jvcr13pz.cgi?E+PZ+3+ABA0113+EEUEE2D820S+7+WW; ComponentLink2Description: Digi-Key Listing; ComponentLink2URL: https://www.digikey.com/product-detail/en/panasonic-electronic-components/EEU-EE2D820S/P13634-ND/1245963; Tolerance: 20%; Voltage: 200V; Price: 1.37; Device Package: Radial, Can, 16mm
footprint CAP AL TH D16 L7.5 H22
pins: 1, 2

## EEU-EE2E101
designator C?, comment 100uF  (value not drawn)
CAP ALUM 100UF 20% 250V RADIAL; Part Number: EEU-EE2E101; Manufacturer: Panasonic Electronic Components; TemperatureRange: -25C ~ 105C; Type: Polar; Ripple Current: 840mA @ 120Hz; Value: 100uF; PartId: 27091; Supplier 1: Digi-Key; Supplier Part Number 1: P13647-ND; ComponentLink1Description: Datasheet; ComponentLink1URL: http://industrial.panasonic.com/www-cgi/jvcr13pz.cgi?E+PZ+3+ABA0113+EEUEE2E101+7+WW; ComponentLink2Description: Digi-Key Listing; ComponentLink2URL: https://www.digikey.com/product-detail/en/panasonic-electronic-components/EEU-EE2E101/P13647-ND/1245976; Tolerance: 20%; Voltage: 250V; Price: 1.72; Device Package: Radial, Can, 16mm
footprint CAP AL TH D16 L7.5 H33.5
pins: 1, 2

## EEU-EE2E220
designator C?, comment 22uF  (value not drawn)
CAP ALUM 22UF 20% 250V RADIAL; Part Number: EEU-EE2E220; Manufacturer: Panasonic Electronic Components; TemperatureRange: -25C ~ 105C; Type: Polar; Ripple Current: 274.7mA @ 120Hz; Value: 22uF; PartId: 25903; Supplier 1: Digi-Key; Supplier Part Number 1: P13640-ND; ComponentLink1Description: Datasheet; ComponentLink1URL: http://industrial.panasonic.com/www-cgi/jvcr13pz.cgi?E+PZ+3+ABA0113+EEUEE2E220+7+WW; ComponentLink2Description: Digi-Key Listing; ComponentLink2URL: https://www.digikey.com/product-detail/en/panasonic-electronic-components/EEU-EE2E220/P13640-ND/1245969; Tolerance: 20%; Voltage: 250V; Price: 0.69; Device Package: Radial, Can, 10mm
footprint CAP AL TH D10 L5 H22
pins: 1, 2

## EEU-EE2E330
designator C?, comment 33uF  (value not drawn)
CAP ALUM 33UF 20% 250V RADIAL; Part Number: EEU-EE2E330; Manufacturer: Panasonic Electronic Components; TemperatureRange: -25C ~ 105C; Type: Polar; Ripple Current: 348.3mA @ 120Hz; Value: 33uF; PartId: 23377; Supplier 1: Digi-Key; Supplier Part Number 1: P13641-ND; ComponentLink1Description: Datasheet; ComponentLink1URL: http://industrial.panasonic.com/www-cgi/jvcr13pz.cgi?E+PZ+3+ABA0113+EEUEE2E330+7+WW; ComponentLink2Description: Digi-Key Listing; ComponentLink2URL: https://www.digikey.com/product-detail/en/panasonic-electronic-components/EEU-EE2E330/P13641-ND/1245970; Tolerance: 20%; Voltage: 250V; Price: 0.92; Device Package: Radial, Can, 12.5mm
footprint CAP AL TH D12.5 L5 H22
pins: 1, 2

## EEU-EE2E470
designator C?, comment 47uF  (value not drawn)
CAP ALUM 47UF 20% 250V RADIAL; Part Number: EEU-EE2E470; Manufacturer: Panasonic Electronic Components; TemperatureRange: -25C ~ 105C; Type: Polar; Ripple Current: 451.5mA @ 120Hz; Value: 47uF; PartId: 24011; Supplier 1: Digi-Key; Supplier Part Number 1: P13642-ND; ComponentLink1Description: Datasheet; ComponentLink1URL: http://industrial.panasonic.com/www-cgi/jvcr13pz.cgi?E+PZ+3+ABA0113+EEUEE2E470+7+WW; ComponentLink2Description: Digi-Key Listing; ComponentLink2URL: https://www.digikey.com/product-detail/en/panasonic-electronic-components/EEU-EE2E470/P13642-ND/1245971; Tolerance: 20%; Voltage: 250V; Price: 1.07; Device Package: Radial, Can, 12.5mm
footprint CAP AL TH D12.5 L5 H27
pins: 1, 2

## EEU-EE2E470S
designator C?, comment 47uF  (value not drawn)
CAP ALUM 47UF 20% 250V RADIAL; Part Number: EEU-EE2E470S; Manufacturer: Panasonic Electronic Components; TemperatureRange: -25C ~ 105C; Type: Polar; Ripple Current: 490mA @ 120Hz; Value: 47uF; PartId: 26435; Supplier 1: Digi-Key; Supplier Part Number 1: P13643-ND; ComponentLink1Description: Datasheet; ComponentLink1URL: http://industrial.panasonic.com/www-cgi/jvcr13pz.cgi?E+PZ+3+ABA0113+EEUEE2E470S+7+WW; ComponentLink2Description: Digi-Key Listing; ComponentLink2URL: https://www.digikey.com/product-detail/en/panasonic-electronic-components/EEU-EE2E470S/P13643-ND/1245972; Tolerance: 20%; Voltage: 250V; Price: 1.37; Device Package: Radial, Can, 16mm
footprint CAP AL TH D16 L7.5 H22
pins: 1, 2

## EEU-EE2E680S
designator C?, comment 68uF  (value not drawn)
CAP ALUM 68UF 20% 250V RADIAL; Part Number: EEU-EE2E680S; Manufacturer: Panasonic Electronic Components; TemperatureRange: -25C ~ 105C; Type: Polar; Ripple Current: 490mA @ 120Hz; Value: 68uF; PartId: 26434; Supplier 1: Digi-Key; Supplier Part Number 1: P13644-ND; ComponentLink1Description: Datasheet; ComponentLink1URL: http://industrial.panasonic.com/www-cgi/jvcr13pz.cgi?E+PZ+3+ABA0113+EEUEE2E680S+7+WW; ComponentLink2Description: Digi-Key Listing; ComponentLink2URL: https://www.digikey.com/product-detail/en/panasonic-electronic-components/EEU-EE2E680S/P13644-ND/1245973; Tolerance: 20%; Voltage: 250V; Price: 1.37; Device Package: Radial, Can, 16mm
footprint CAP AL TH D16 L7.5 H22
pins: 1, 2

## EEU-EE2E820
designator C?, comment 82uF  (value not drawn)
CAP ALUM 82UF 20% 250V RADIAL; Part Number: EEU-EE2E820; Manufacturer: Panasonic Electronic Components; TemperatureRange: -25C ~ 105C; Type: Polar; Ripple Current: 588mA @ 120Hz; Value: 82uF; PartId: 26907; Supplier 1: Digi-Key; Supplier Part Number 1: P13645-ND; ComponentLink1Description: Datasheet; ComponentLink1URL: http://industrial.panasonic.com/www-cgi/jvcr13pz.cgi?E+PZ+3+ABA0113+EEUEE2E820+7+WW; ComponentLink2Description: Digi-Key Listing; ComponentLink2URL: https://www.digikey.com/product-detail/en/panasonic-electronic-components/EEU-EE2E820/P13645-ND/1245974; Tolerance: 20%; Voltage: 250V; Price: 1.59; Device Package: Radial, Can, 16mm
footprint CAP AL TH D16 L7.5 H27
pins: 1, 2

## EEU-EE2G100
designator C?, comment 10uF  (value not drawn)
CAP ALUM 10UF 20% 400V RADIAL; Part Number: EEU-EE2G100; Manufacturer: Panasonic Electronic Components; TemperatureRange: -25C ~ 105C; Type: Polar; Ripple Current: 150.5mA @ 120Hz; Value: 10uF; PartId: 25948; Supplier 1: Digi-Key; Supplier Part Number 1: P13661-ND; ComponentLink1Description: Datasheet; ComponentLink1URL: http://industrial.panasonic.com/www-cgi/jvcr13pz.cgi?E+PZ+3+ABA0113+EEUEE2G100+7+WW; ComponentLink2Description: Digi-Key Listing; ComponentLink2URL: https://www.digikey.com/product-detail/en/panasonic-electronic-components/EEU-EE2G100/P13661-ND/1245990; Tolerance: 20%; Voltage: 400V; Price: 0.76; Device Package: Radial, Can, 10mm
footprint CAP AL TH D10 L5 H22
pins: 1, 2

## EEU-EE2G150
designator C?, comment 15uF  (value not drawn)
CAP ALUM 15UF 20% 400V RADIAL; Part Number: EEU-EE2G150; Manufacturer: Panasonic Electronic Components; TemperatureRange: -25C ~ 105C; Type: Polar; Ripple Current: 206.5mA @ 120Hz; Value: 15uF; PartId: 23394; Supplier 1: Digi-Key; Supplier Part Number 1: P13662-ND; ComponentLink1Description: Datasheet; ComponentLink1URL: http://industrial.panasonic.com/www-cgi/jvcr13pz.cgi?E+PZ+3+ABA0113+EEUEE2G150+7+WW; ComponentLink2Description: Digi-Key Listing; ComponentLink2URL: https://www.digikey.com/product-detail/en/panasonic-electronic-components/EEU-EE2G150/P13662-ND/1245991; Tolerance: 20%; Voltage: 400V; Price: 0.96; Device Package: Radial, Can, 12.5mm
footprint CAP AL TH D12.5 L5 H22
pins: 1, 2

## EEU-EE2G220
designator C?, comment 22uF  (value not drawn)
CAP ALUM 22UF 20% 400V RADIAL; Part Number: EEU-EE2G220; Manufacturer: Panasonic Electronic Components; TemperatureRange: -25C ~ 105C; Type: Polar; Ripple Current: 266mA @ 120Hz; Value: 22uF; PartId: 24081; Supplier 1: Digi-Key; Supplier Part Number 1: P13663-ND; ComponentLink1Description: Datasheet; ComponentLink1URL: http://industrial.panasonic.com/www-cgi/jvcr13pz.cgi?E+PZ+3+ABA0113+EEUEE2G220+7+WW; ComponentLink2Description: Digi-Key Listing; ComponentLink2URL: https://www.digikey.com/product-detail/en/panasonic-electronic-components/EEU-EE2G220/P13663-ND/1245992; Tolerance: 20%; Voltage: 400V; Price: 1.21; Device Package: Radial, Can, 12.5mm
footprint CAP AL TH D12.5 L5 H27
pins: 1, 2

## EEU-EE2G220S
designator C?, comment 22uF  (value not drawn)
CAP ALUM 22UF 20% 400V RADIAL; Part Number: EEU-EE2G220S; Manufacturer: Panasonic Electronic Components; TemperatureRange: -25C ~ 105C; Type: Polar; Ripple Current: 301mA @ 120Hz; Value: 22uF; PartId: 26458; Supplier 1: Digi-Key; Supplier Part Number 1: P13664-ND; ComponentLink1Description: Datasheet; ComponentLink1URL: http://industrial.panasonic.com/www-cgi/jvcr13pz.cgi?E+PZ+3+ABA0113+EEUEE2G220S+7+WW; ComponentLink2Description: Digi-Key Listing; ComponentLink2URL: https://www.digikey.com/product-detail/en/panasonic-electronic-components/EEU-EE2G220S/P13664-ND/1245993; Tolerance: 20%; Voltage: 400V; Price: 1.54; Device Package: Radial, Can, 16mm
footprint CAP AL TH D16 L7.5 H22
pins: 1, 2

## EEU-EE2G330S
designator C?, comment 33uF  (value not drawn)
CAP ALUM 33UF 20% 400V RADIAL; Part Number: EEU-EE2G330S; Manufacturer: Panasonic Electronic Components; TemperatureRange: -25C ~ 105C; Type: Polar; Ripple Current: 357mA @ 120Hz; Value: 33uF; PartId: 26456; Supplier 1: Digi-Key; Supplier Part Number 1: P13665-ND; ComponentLink1Description: Datasheet; ComponentLink1URL: http://industrial.panasonic.com/www-cgi/jvcr13pz.cgi?E+PZ+3+ABA0113+EEUEE2G330S+7+WW; ComponentLink2Description: Digi-Key Listing; ComponentLink2URL: https://www.digikey.com/product-detail/en/panasonic-electronic-components/EEU-EE2G330S/P13665-ND/1245994; Tolerance: 20%; Voltage: 400V; Price: 1.54; Device Package: Radial, Can, 16mm
footprint CAP AL TH D16 L7.5 H22
pins: 1, 2

## EEU-EE2G470
designator C?, comment 47uF  (value not drawn)
CAP ALUM 47UF 20% 400V RADIAL; Part Number: EEU-EE2G470; Manufacturer: Panasonic Electronic Components; TemperatureRange: -25C ~ 105C; Type: Polar; Ripple Current: 413mA @ 120Hz; Value: 47uF; PartId: 26919; Supplier 1: Digi-Key; Supplier Part Number 1: P13666-ND; ComponentLink1Description: Datasheet; ComponentLink1URL: http://industrial.panasonic.com/www-cgi/jvcr13pz.cgi?E+PZ+3+ABA0113+EEUEE2G470+7+WW; ComponentLink2Description: Digi-Key Listing; ComponentLink2URL: https://www.digikey.com/product-detail/en/panasonic-electronic-components/EEU-EE2G470/P13666-ND/1245995; Tolerance: 20%; Voltage: 400V; Price: 1.69; Device Package: Radial, Can, 16mm
footprint CAP AL TH D16 L7.5 H27
pins: 1, 2

## EEU-EE2V150
designator C?, comment 15uF  (value not drawn)
CAP ALUM 15UF 20% 350V RADIAL; Part Number: EEU-EE2V150; Manufacturer: Panasonic Electronic Components; TemperatureRange: -25C ~ 105C; Type: Polar; Ripple Current: 168mA @ 120Hz; Value: 15uF; PartId: 25956; Supplier 1: Digi-Key; Supplier Part Number 1: P13651-ND; ComponentLink1Description: Datasheet; ComponentLink1URL: http://industrial.panasonic.com/www-cgi/jvcr13pz.cgi?E+PZ+3+ABA0113+EEUEE2V150+7+WW; ComponentLink2Description: Digi-Key Listing; ComponentLink2URL: https://www.digikey.com/product-detail/en/panasonic-electronic-components/EEU-EE2V150/P13651-ND/1245980; Tolerance: 20%; Voltage: 350V; Price: 0.79; Device Package: Radial, Can, 10mm
footprint CAP AL TH D10 L5 H22
pins: 1, 2